# Altium footprint library PCB2_DEMO_BOARD_t.PcbLib: 10 footprints
Each footprint in its own frame and in the unit in brackets; x right, y up, seen from the top. Pads: shape width x height; smd on the part's side, far side on the other; paste and mask are expansions set on the pad; w line width, h text height; cw(c..) or ccw(c..) is an arc to the next point about the centre after c.
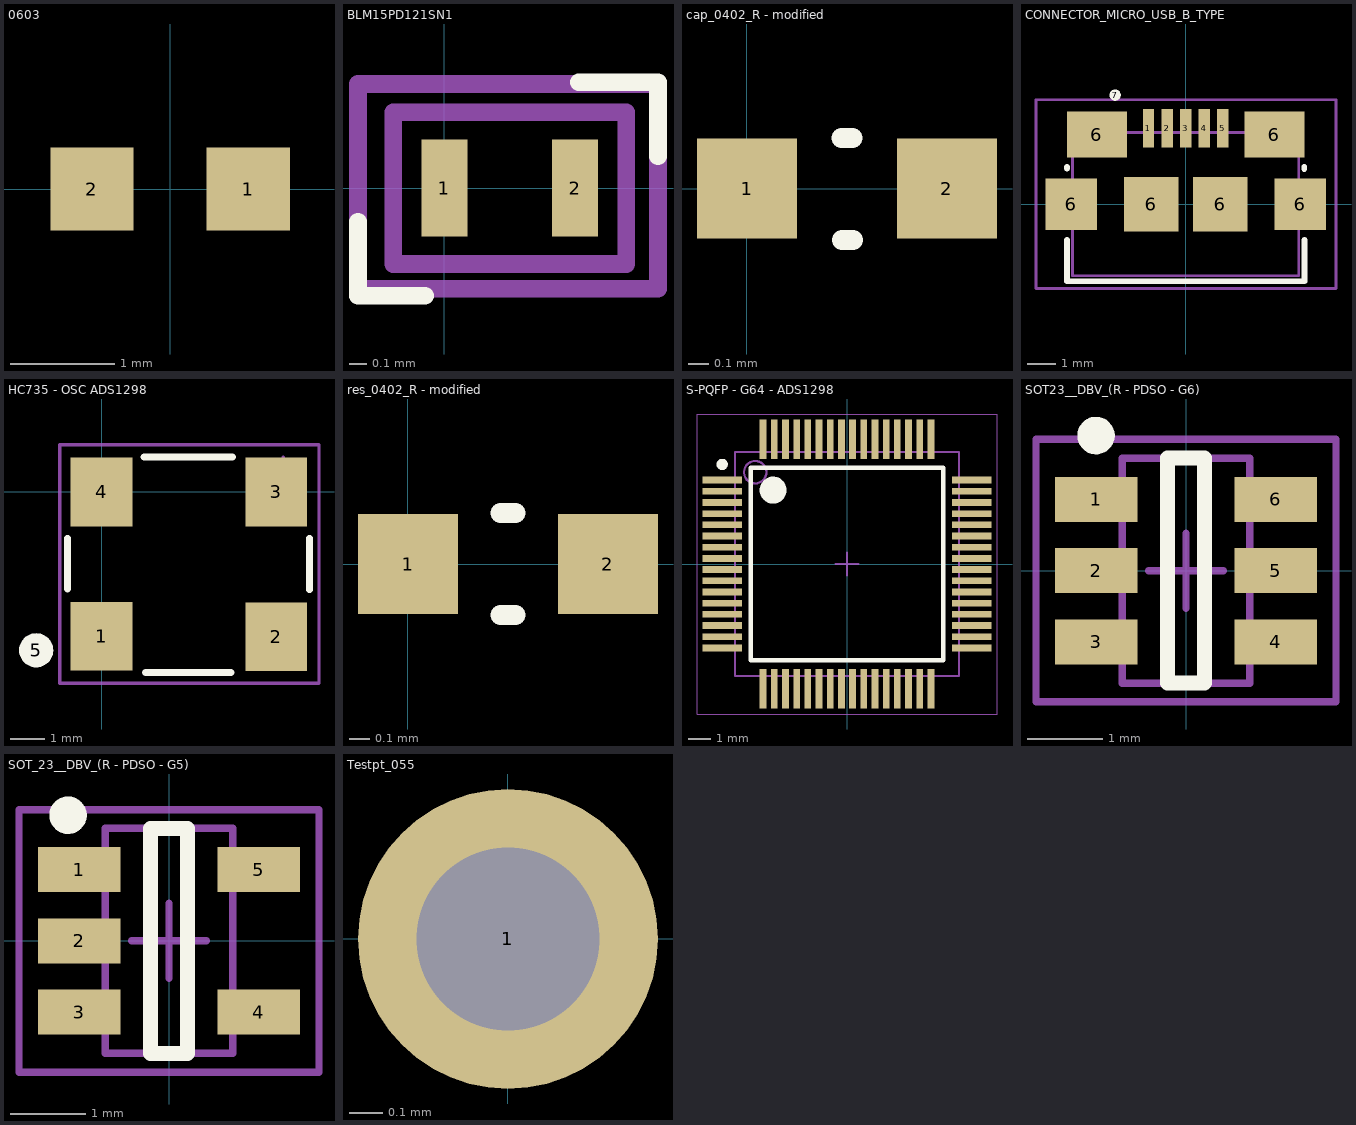
[diagram p0: the footprints below, top view; thin cyan lines are the x and y axes]

## 0603 [mm]
pads (2):
  rect 0.8x0.8 smd: 1(0.75,0) 2(-0.75,0)
Bottom Overlay:
  lines w0.1: -1.45,-0.635 1.428,-0.635 1.428,0.635 -1.45,0.635 -1.45,-0.635

## BLM15PD121SN1 [mm] "Chip Inductor, 2-Leads, Body 1,00x0,50mm, IPC Medium Density"
height 0.55
pads (2):
  rect 0.26x0.55 smd mask+0.1: 1(0,0) 2(0.74,0)
Top Overlay:
  lines w0.1: -0.49,-0.19 -0.49,-0.61 -0.11,-0.61 ; 0.76,0.6 1.21,0.6 1.21,0.18
Mechanical 13:
  lines w0.1: -0.29,-0.43 -0.29,0 -0.29,0.02 -0.29,0.43 1.03,0.43 1.03,0.26 1.03,-0.43 -0.29,-0.43
Mechanical 15:
  lines w0.1: -0.49,-0.57 -0.49,0.59 1.21,0.59 1.21,-0.57 -0.49,-0.57

## cap_0402_R - modified [mm] "0402_R"
height 0.35
pads (2):
  rect 0.5x0.5 smd paste-0.05: 1(0,0) 2(1,0)
Top Overlay:
  lines w0.1: 0.472,0.254 0.528,0.254 ; 0.474,-0.258 0.53,-0.258
3D body: height 0.5, standoff 0, extent 0.965,-0.254 1.143,0.254
3D body: height 0.5, standoff 0, extent 0.051,-0.254 0.965,0.254
3D body: height 0.5, standoff 0, extent -0.127,-0.254 0.051,0.254

## CONNECTOR_MICRO_USB_B_TYPE [mm] "connettore micro usb B type"
pads (12):
  rect 0.4x1.35 smd: 1(-1.3,2.65) 2(-0.65,2.65) 3(0,2.65) 4(0.65,2.65) 5(1.3,2.65)
  rect 1.8x1.8 smd mask+0.2: 6(-4,0) 6(4,0)
  rect 2.1x1.6 smd mask+0.2: 6(-3.1,2.43) 6(3.1,2.43)
  rect 1.9x1.9 smd mask+0.2: 6(-1.2,0) 6(1.2,0)
  round 0.4 on Top Overlay mask+0.2: 7(-2.464,3.81)
Top Overlay:
  lines w0.2: -4.15,-1.25 -4.15,-2.69 4.15,-2.69 4.15,-1.25 ; -4.15,1.25 -4.15,1.3 ; 4.14,1.23 4.14,1.31
Mechanical 13:
  lines w0.1: 3.62,2.5 3.95,2.5 ; 3.95,2.5 3.95,0 3.95,0.03 3.95,-2.5 -3.95,-2.5 -3.95,2.5 3.95,2.5
Mechanical 15:
  lines w0.1: -5.23,-2.95 5.25,-2.95 5.25,3.65 -5.23,3.65 -5.23,-2.95
3D body: height 2.8, standoff 0, extent -4,-2.55 4,2.55

## HC735 - OSC ADS1298 [mm] "Footprint oscillatore ABM3B-8.000MHZ-B2-T del micro"
pads (5):
  rect 1.8x2 smd mask+0.2: 1(0,-4.2) 2(5.08,-4.216) 3(5.08,0) 4(0,0)
  round 1 on Top Overlay mask+0.2: 5(-1.906,-4.608)
Top Overlay:
  lines w0.2: -0.991,-2.819 -0.991,-1.346 ; 1.228,1.016 3.81,1.016 ; 1.27,-5.258 3.759,-5.258 ; 6.045,-2.845 6.045,-1.346
Mechanical 15:
  lines w0.1: -1.219,-5.563 -1.219,1.372 ; -1.194,-5.563 6.325,-5.563 ; -1.191,1.372 6.325,1.372 6.325,-5.537 ; 5.282,0.647 5.282,1.007
3D body: height 1.1, standoff 0, extent -0.025,-4.216 5.055,0

## res_0402_R - modified [mm] "0402_R"
height 0.35
pads (2):
  rect 0.5x0.5 smd paste-0.05: 1(0,0) 2(1,0)
Top Overlay:
  lines w0.1: 0.462,-0.254 0.537,-0.254 ; 0.462,0.254 0.537,0.254
3D body: height 0.3, standoff 0, extent -0.127,-0.254 0.051,0.254
3D body: height 0.3, standoff 0, extent 0.051,-0.254 0.965,0.254
3D body: height 0.3, standoff 0, extent 0.965,-0.254 1.143,0.254

## S-PQFP - G64 - ADS1298 [mm] "TSQFP, 64-Leads, Body 10,00x10,00mm, Pitch 0,50mm, IPC Medium Density"
height 1.2
pads (64):
  rect 1.75x0.3 smd: 1(-5.575,3.75) 2(-5.575,3.25) 3(-5.575,2.75) 4(-5.575,2.25) 5(-5.575,1.75) 6(-5.575,1.25) 7(-5.575,0.75) 8(-5.575,0.25) 9(-5.575,-0.25) 10(-5.575,-0.75) 11(-5.575,-1.25) 12(-5.575,-1.75) 13(-5.575,-2.25) 14(-5.575,-2.75) 15(-5.575,-3.25) 16(-5.575,-3.75) 33(5.575,-3.75) 34(5.575,-3.25) 35(5.575,-2.75) 36(5.575,-2.25) 37(5.575,-1.75) 38(5.575,-1.25) 39(5.575,-0.75) 40(5.575,-0.25) 41(5.575,0.25) 42(5.575,0.75) 43(5.575,1.25) 44(5.575,1.75) 45(5.575,2.25) 46(5.575,2.75) 47(5.575,3.25) 48(5.575,3.75)
  rect 0.3x1.75 smd: 17(-3.75,-5.575) 18(-3.25,-5.575) 19(-2.75,-5.575) 20(-2.25,-5.575) 21(-1.75,-5.575) 22(-1.25,-5.575) 23(-0.75,-5.575) 24(-0.25,-5.575) 25(0.25,-5.575) 26(0.75,-5.575) 27(1.25,-5.575) 28(1.75,-5.575) 29(2.25,-5.575) 30(2.75,-5.575) 31(3.25,-5.575) 32(3.75,-5.575) 49(3.75,5.575) 50(3.25,5.575) 51(2.75,5.575) 52(2.25,5.575) 53(1.75,5.575) 54(1.25,5.575) 55(0.75,5.575) 56(0.25,5.575) 57(-0.25,5.575) 58(-0.75,5.575) 59(-1.25,5.575) 60(-1.75,5.575) 61(-2.25,5.575) 62(-2.75,5.575) 63(-3.25,5.575) 64(-3.75,5.575)
Top Overlay:
  circle w0.25: c-5.575,4.45 r0.125
  circle w0.6: c-3.3,3.3 r0.3
  lines w0.2: -4.3,-4.3 -4.3,4.3 4.3,4.3 4.3,-4.3 -4.3,-4.3
Mechanical 13:
  circle w0.1: c-4.1,4.1 r0.5
  lines w0.1: -5,-5 -5,5 5,5 5,-5 -5,-5
Mechanical 15:
  lines w0.05: -6.7,-6.7 -6.7,6.7 6.7,6.7 6.7,-6.7 -6.7,-6.7
  lines w0.1: -0.5,0 0.5,0 ; 0,-0.5 0,0.5
3D body: height 1.2, standoff 0.25, extent -5,-5 5,5

## SOT23__DBV_(R - PDSO - G6) [mm]
height 1.45
pads (6):
  rect 1.1x0.6 smd: 1(-1.2,0.95) 2(-1.2,0) 3(-1.2,-0.95) 4(1.2,-0.95) 5(1.2,0) 6(1.2,0.95)
Top Overlay:
  circle w0.25: c-1.2,1.8 r0.125
  lines w0.2: -0.25,-1.5 0.25,-1.5 0.25,1.5 -0.25,1.5 -0.25,-1.5
Mechanical 13:
  lines w0.1: -0.85,-1.5 -0.85,1.5 0.85,1.5 0.85,-1.5 -0.85,-1.5
Mechanical 15:
  lines w0.1: -0.5,0 0.5,0 ; 0,-0.5 0,0.5 ; -2,-1.75 -2,1.75 2,1.75 2,-1.75 -2,-1.75
3D body: height 1.45, standoff 0.15, extent -0.85,-1.5 0.85,1.5

## SOT_23__DBV_(R - PDSO - G5) [mm]
height 1.45
pads (5):
  rect 1.1x0.6 smd: 1(-1.2,0.95) 2(-1.2,0) 3(-1.2,-0.95) 4(1.2,-0.95) 5(1.2,0.95)
Top Overlay:
  circle w0.25: c-1.346,1.676 r0.125
  lines w0.2: -0.25,-1.5 0.25,-1.5 0.25,1.5 -0.25,1.5 -0.25,-1.5
Mechanical 13:
  lines w0.1: -0.85,-1.5 0.85,-1.5 0.85,1.5 -0.85,1.5 -0.85,-1.5
Mechanical 15:
  lines w0.1: -0.5,0 0.5,0 ; 0,-0.5 0,0.5 ; -2,-1.75 -2,1.75 2,1.75 2,-1.75 -2,-1.75
3D body: height 1.45, standoff 0.15, extent -0.85,-1.5 0.85,1.5

## Testpt_055 [mm]
pads (1):
  round 0.9 hole 0.55: 1(0,0)